# Altium footprint library PDIP16_Gull_Wing.PcbLib: 1 footprints
Each footprint in its own frame and in the unit in brackets; x right, y up, seen from the top. Pads: shape width x height; smd on the part's side, far side on the other; paste and mask are expansions set on the pad; w line width, h text height; cw(c..) or ccw(c..) is an arc to the next point about the centre after c.
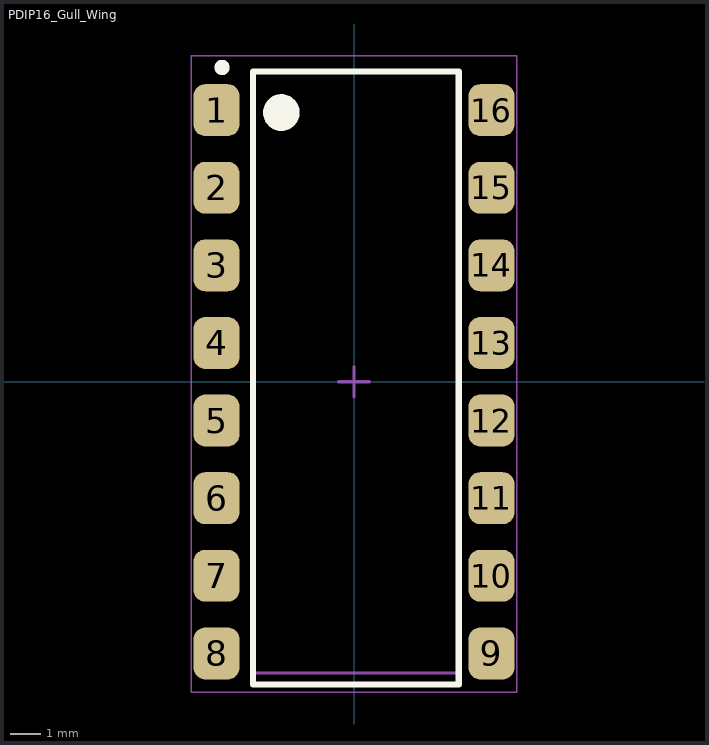
[diagram p0: the footprint, top view; thin cyan lines are the x and y axes]

## PDIP16_Gull_Wing [mm]
height 1.75
pads (16):
  rrect50% 1.5x1.7 smd: 1(-4.5,8.89) 2(-4.5,6.35) 3(-4.5,3.81) 4(-4.5,1.27) 5(-4.5,-1.27) 6(-4.5,-3.81) 7(-4.5,-6.35) 8(-4.5,-8.89) 9(4.5,-8.89) 10(4.5,-6.35) 11(4.5,-3.81) 12(4.5,-1.27) 13(4.5,1.27) 14(4.5,3.81) 15(4.5,6.35) 16(4.5,8.89)
Top Overlay:
  circle w0.25: c-4.318,10.287 r0.125
  circle w0.6: c-2.378,8.811 r0.3
  lines w0.2: -3.302,-9.906 -3.302,10.16 3.429,10.16 3.429,-9.906 -3.302,-9.906
Top Assembly:
  circle w0.1: c-2.378,8.811 r0.5
  lines w0.1: -0.5,0 0.5,0 ; 0,-0.5 0,0.5 ; -3.302,-9.525 3.429,-9.525 3.429,10.16 -3.302,10.16 -3.302,-9.525
Top Courtyard:
  lines w0.05: -5.334,-10.16 5.334,-10.16 5.334,10.668 -5.334,10.668 -5.334,-10.16
3D body "User Library-SO16_2_54pitch_6_5mm wide.step": height 3.9, standoff 0.05, extent -5.08,-9.92 5.08,9.92